# Altium schematic symbol library LM2588.SchLib: 1 symbol
Pins are listed as number, name and electrical type; pins without a type are passive.

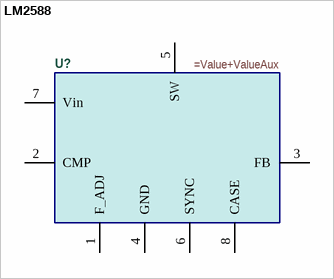
[diagram p0: symbol LM2588]

## LM2588
designator U?
=Description
pins: 1 F_ADJ, 2 CMP, 3 FB, 4 GND, 5 SW, 6 SYNC, 7 Vin, 8 CASE